# Altium footprint library LaserDiode_Driver.PcbLib: 56 footprints (part 2 of 4)
Each footprint in its own frame and in the unit in brackets; x right, y up, seen from the top. Pads: shape width x height; smd on the part's side, far side on the other; paste and mask are expansions set on the pad; w line width, h text height; cw(c..) or ccw(c..) is an arc to the next point about the centre after c.
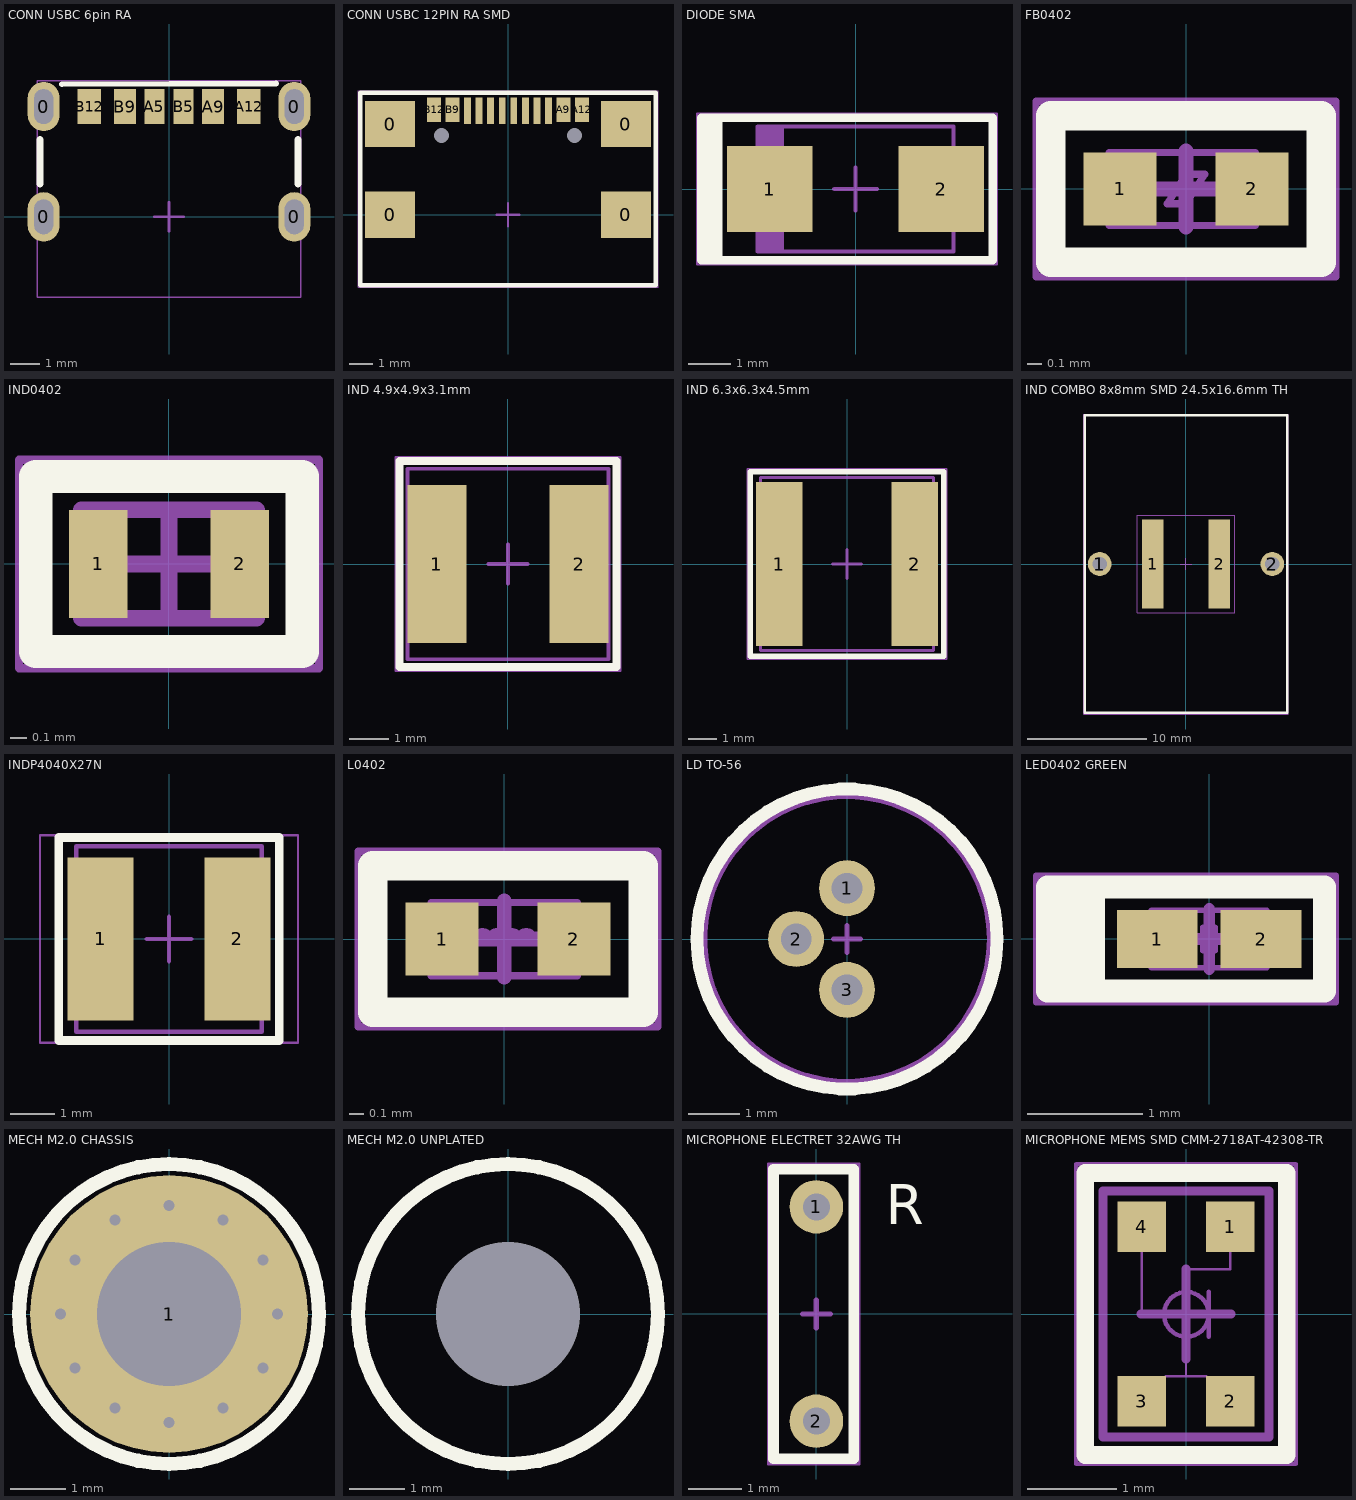
[diagram p1: the footprints below, top view; thin cyan lines are the x and y axes]

## CONN USBC 6pin RA [mm]
pads (10):
  oval 1.1x1.7 hole 0.65 slot 1.2 at 90 deg: 0(-4.32,0) 0(-4.32,3.8) 0(4.32,0) 0(4.32,3.8)
  rect 0.7x1.2 smd: A5(-0.5,3.8) B5(0.5,3.8)
  rect 0.76x1.2 smd: A9(1.52,3.8) B9(-1.52,3.8)
  rect 0.8x1.2 smd: A12(2.75,3.8) B12(-2.75,3.8)
Top Overlay:
  lines w0.2: -3.683,4.572 3.683,4.6
  lines w0.254: -4.445,1.143 -4.445,2.667 ; 4.445,1.143 4.445,2.667
Mechanical 15:
  lines w0.05: -4.545,-2.767 4.545,-2.767 4.545,4.686 -4.545,4.686 -4.545,-2.767
  lines w0.1: -0.504,0.004 0.496,0.004 ; -0.004,-0.496 -0.004,0.504
3D body "USB4125-GF-A.stp": height 3.26, standoff -1, extent -4.47,-2.667 4.47,4.233

## CONN USBC 12PIN RA SMD [mm]
pads (18):
  rect 2.18x2 smd: 0(-5.11,0) 0(-5.11,3.93) 0(5.11,0) 0(5.11,3.93)
  round 0 hole 0.65 unplated: 0(-2.89,3.43) 0(2.89,3.43)
  rect 0.3x1.15 smd: A5(-1.25,4.505) A6(-0.25,4.505) A7(0.25,4.505) A8(1.25,4.505) B5(1.75,4.505) B6(0.75,4.505) B7(-0.75,4.505) B8(-1.75,4.505)
  rect 0.6x1.06 smd: A9(2.4,4.55) A12(3.2,4.55) B9(-2.4,4.55) B12(-3.2,4.55)
Top Overlay:
  lines w0.2: -6.4,-3.048 -5.673,-3.048 6.4,-3.048 6.4,0 6.4,5.28 2.9,5.28 -6.4,5.28 -6.4,-1 -6.4,-3.048
Mechanical 15:
  lines w0.05: -6.5,-3.148 -6.5,5.38 6.5,5.38 6.5,-3.148 -6.5,-3.148
  lines w0.1: -0.5,0 0.5,0 ; 0,-0.5 0,0.5
3D body "USB4110-GF-A.stp": height 3.26, standoff -0.63, extent -5.673,-2.848 5.627,4.852

## DIODE SMA [mm]
height 2.2
pads (2):
  rect 2x2 smd: 1(-2,0) 2(2,0)
Top Overlay:
  lines w0.2: -3.4,1.66 -3.4,-1.66 ; -3.4,-1.66 -3.6,-1.66 -3.6,1.26 -3.6,1.66 -3.2,1.66 ; -3.4,-1.66 -3.2,-1.66 ; -3.2,-1.66 3.2,-1.66 3.2,1 3.2,1.66 -2.505,1.66 -3.2,1.66 ; -3.2,-1.66 -3.2,-1 -3.2,1.66
Mechanical 13:
  rectangle: -2.285,-1.46 -1.67,1.46
  lines w0.1: -2.285,-1.46 2.285,-1.46 2.285,1.46 -2.285,1.46 -2.285,-1.46
Mechanical 15:
  lines w0.05: -3.7,-1.76 3.3,-1.76 3.3,1.76 -3.7,1.76 -3.7,-1.76
  lines w0.1: -0.5,0 0.5,0 ; 0,-0.5 0,0.5
3D body "DIODE SMA.step": height 2.2, standoff 0, extent -2.505,-1.46 2.505,1.46

## FB0402 [mm]
pads (2):
  rect 0.5x0.5 smd: 1(-0.45,0) 2(0.45,0)
Top Overlay:
  lines w0.2: -0.925,-0.5 0.925,-0.5 0.925,0.5 -0.925,0.5 -0.925,-0.5
Mechanical 13:
  lines w0.05: -0.267,0 -0.064,0 ; 0.267,0 0.064,0 ; -0.064,0 -0.127,-0.1 0,-0.1 0.064,0 ; -0.064,0 0,0.1 0.127,0.1 0.064,0 ; -0.525,-0.25 -0.525,0.25 0.475,0.25 0.475,-0.25 -0.525,-0.25
Mechanical 15:
  lines w0.05: -1.025,-0.6 -1.025,0.6 1.025,0.6 1.025,-0.6 -1.025,-0.6
  lines w0.1: -0.26,0 0.26,0 ; 0,-0.26 0,0.26
3D body "User Library-CR1005-0402.step": height 0.36, standoff 0.01, extent -0.525,-0.25 0.475,0.25

## IND0402 [mm] "Chip Inductor, 2-Leads, Body 1.00x0.60mm, IPC Medium Density"
height 0.6
pads (2):
  rect 0.35x0.65 smd: 1(-0.425,0) 2(0.425,0)
Top Overlay:
  lines w0.2: -0.8,-0.525 -0.8,0.525 0.8,0.525 0.8,-0.525 -0.8,-0.525
Mechanical 13:
  lines w0.1: -0.525,-0.325 0.525,-0.325 0.525,0.325 -0.525,0.325 -0.525,-0.325
Mechanical 15:
  lines w0.05: -0.9,-0.625 0.9,-0.625 0.9,0.625 -0.9,0.625 -0.9,-0.625
  lines w0.1: -0.325,0 0.325,0 ; 0,-0.325 0,0.325
3D body "IND0402.step": height 0.6, standoff 0, extent -0.525,-0.325 0.525,0.325

## IND 4.9x4.9x3.1mm [mm] "Precision Wire Wound Inductor, 2-Leads, Body 4.90x4.90mm, IPC Medium Density"
height 3.1
pads (2):
  rect 1.5x4 smd: 1(-1.8,0) 2(1.8,0)
Top Overlay:
  lines w0.2: -2.75,-2.613 2.75,-2.613 2.75,2.613 -2.75,2.613 -2.75,-2.613
Mechanical 13:
  lines w0.1: -2.55,-2.413 -2.55,2.413 2.55,2.413 2.55,-2.413 -2.55,-2.413
Mechanical 15:
  lines w0.05: -2.85,-2.713 -2.85,2.713 2.85,2.713 2.85,-2.713 -2.85,-2.713
  lines w0.1: -0.5,0 0.5,0 ; 0,-0.5 0,0.5
3D body "IND 4.9x4.9x3.1mm.step": height 3.2, standoff 0, extent -2.55,-2.45 2.55,2.45

## IND 6.3x6.3x4.5mm [mm]
pads (2):
  rect 1.6x5.7 smd: 1(-2.35,0) 2(2.35,0)
Top Overlay:
  lines w0.2: -3.35,-3.2 3.35,-3.2 3.35,3.2 -3.35,3.2 -3.35,-3.2
Mechanical 13:
  lines w0.1: -3,-3 -3,3 3,3 3,-3 -3,-3
Mechanical 15:
  lines w0.05: -3.45,-3.3 -3.45,3.3 3.45,3.3 3.45,-3.3 -3.45,-3.3
  lines w0.1: -0.5,0 0.5,0 ; 0,-0.5 0,0.5
3D body "1255AY-6R8M=P3.STEP": height 4.5, standoff 0, extent -3,-3 3,3

## IND COMBO 8x8mm SMD 24.5x16.6mm TH [mm]
height 4.2
pads (4):
  round 2 hole 1.2: 1(-7.25,0) 2(7.25,0)
  rect 1.8x7.5 smd: 1(-2.8,0) 2(2.8,0)
Top Overlay:
  lines w0.2: -8.5,-12.5 8.5,-12.5 8.5,12.5 -8.5,12.5 -8.5,-12.5
Mechanical 13:
  lines w0.1: -4.1,-4.1 -4.1,4.1 4.1,4.1 4.1,-4.1 -4.1,-4.1
Mechanical 15:
  lines w0.05: -8.6,-12.6 -8.6,12.6 8.6,12.6 8.6,-12.6 -8.6,-12.6
  lines w0.1: -0.5,0 0.5,0 ; 0,-0.5 0,0.5

## INDP4040X27N [mm] "Precision Wire Wound Inductor, 2-Leads, Body 4.00x4.00mm, IPC Medium Density"
height 2.7
pads (2):
  rect 1.5x3.7 smd: 1(-1.55,0) 2(1.55,0)
Top Overlay:
  lines w0.2: -2.5,-2.3 -2.5,2.3 2.5,2.3 2.5,-2.3 -2.5,-2.3
Top Assembly:
  lines w0.1: -2.1,-2.1 2.1,-2.1 2.1,2.1 -2.1,2.1 -2.1,-2.1
Top Courtyard:
  lines w0.05: -2.925,-2.35 2.925,-2.35 2.925,2.35 -2.925,2.35 -2.925,-2.35
  lines w0.1: -0.5,0 0.5,0 ; 0,-0.5 0,0.5
3D body "INDP4040X27N.step": height 2.8, standoff 0, extent -2.1,-2 2.1,2

## L0402 [mm]
pads (2):
  rect 0.5x0.5 smd: 1(-0.425,0) 2(0.475,0)
Top Overlay:
  lines w0.2: -0.9,-0.5 0.95,-0.5 0.95,0.5 -0.9,0.5 -0.9,-0.5
Mechanical 13:
  lines w0.05: -0.302,0 -0.2,0 cw(c-0.15,0) -0.1,0 cw(c-0.05,0) 0,0 cw(c0.05,0) 0.1,0 cw(c0.15,0) 0.2,0 0.302,0 ; -0.5,-0.25 -0.5,0.25 0.5,0.25 0.5,-0.25 -0.5,-0.25
Mechanical 15:
  lines w0.05: -1,-0.6 -1,0.6 1.05,0.6 1.05,-0.6 -1,-0.6
  lines w0.1: -0.26,0 0.26,0 ; 0,-0.26 0,0.26
3D body "Coilcraft-0402DF.step": height 0.66, standoff 0, extent -0.554,-0.32 0.564,0.341

## LD TO-56 [mm]
pads (3):
  round 1.1 hole 0.6: 1(0,1) 2(-1,0) 3(0,-1)
Top Overlay:
  circle w0.254: c0,0 r2.95
Mechanical 15:
  circle w0.1: c0,0 r2.8
  lines w0.1: -0.26,0 0.26,0 ; 0,-0.26 0,0.26
3D body "User Library-TO-56_NTypeLD.STEP": height 3.5, standoff -6.5, extent -2.732,-2.769 2.8,2.768

## LED0402 GREEN [mm]
pads (2):
  rect 0.7x0.5 smd: 1(-0.45,0) 2(0.45,0)
Top Overlay:
  lines w0.2: -1.2,-0.45 -1.2,0.449 ; -1,-0.45 -1,0 -1,0.45 ; -1,-0.45 1,-0.45 1,0.45 -1,0.45 ; -1,-0.45 -1.4,-0.45 -1.4,0.45 -1,0.45
Mechanical 13:
  lines w0.05: -0.255,0 -0.052,0 ; -0.052,-0.102 -0.052,0.102 ; 0.052,-0.102 0.052,0.102 ; 0.052,0 0.255,0 ; -0.5,-0.25 -0.5,0.25 0.5,0.25 0.5,-0.25 -0.5,-0.25
Mechanical 15:
  lines w0.05: -1.5,-0.55 -1.5,0.55 1.1,0.55 1.1,-0.55 -1.5,-0.55
  lines w0.1: -0.26,0 0.26,0 ; 0,-0.26 0,0.26
3D body "Diode_Kingbright_APHHS1005CGCK_eec.STEP": height 0.5, standoff 0, extent -0.5,-0.25 0.5,0.25

## MECH M2.0 CHASSIS [mm]
pads (1):
  round 5 hole 2.6: 1(0,0)
via 0.975,-1.689 diameter 0.5 hole 0.2
via 0,-1.95 diameter 0.5 hole 0.2
via 1.689,-0.975 diameter 0.5 hole 0.2
via -1.689,-0.975 diameter 0.5 hole 0.2
via -1.95,0 diameter 0.5 hole 0.2
via -0.975,-1.689 diameter 0.5 hole 0.2
via -0.975,1.689 diameter 0.5 hole 0.2
via 0,1.95 diameter 0.5 hole 0.2
via -1.689,0.975 diameter 0.5 hole 0.2
via 1.689,0.975 diameter 0.5 hole 0.2
via 1.95,0 diameter 0.5 hole 0.2
via 0.975,1.689 diameter 0.5 hole 0.2
Top Overlay:
  circle w0.254: c0,0 r2.7

## MECH M2.0 UNPLATED [mm]
pads (1):
  round 0 hole 2.6 unplated: 1(0,0)
Top Overlay:
  circle w0.254: c0,0 r2.7

## MICROPHONE ELECTRET 32AWG TH [mm]
pads (2):
  round 1 hole 0.5: 1(0,2) 2(0,-2)
Top Overlay:
  lines w0.2: -0.8,-2.7 -0.8,2.477 -0.8,2.7 0,2.7 0.7,2.7 0.7,2 0.7,-2.7 0,-2.7 -0.8,-2.7
  text "R" at 1.293,1.674 h0.75
Mechanical 15:
  lines w0.05: -0.9,-2.8 0.8,-2.8 0.8,2.8 -0.9,2.8 -0.9,-2.8
  lines w0.1: -0.26,0 0.26,0 ; 0,-0.26 0,0.26

## MICROPHONE MEMS SMD CMM-2718AT-42308-TR [mm]
pads (4):
  rect 0.54x0.56 smd: 1(0.495,0.975) 2(0.495,-0.975) 3(-0.495,-0.975) 4(-0.495,0.975)
Top Overlay:
  lines w0.2: -1.125,-1.575 -1.125,1.575 1.125,1.575 1.125,-1.575 -1.125,-1.575
Mechanical 1:
  circle w0.05: c0.004,-0.004 r0.25
  lines w0.025: -0.495,0.695 -0.495,0 -0.246,0 ; -0.225,-0.695 0.225,-0.695 ; 0,-0.695 0,-0.254 ; 0,0.246 0,0.5 0.495,0.5 0.495,0.695
  lines w0.05: 0.254,-0.254 0.254,0.246
Mechanical 13:
  lines w0.1: -0.925,-1.375 -0.925,1.375 0.925,1.375 0.925,-1.375 -0.925,-1.375
Mechanical 15:
  lines w0.05: -1.225,-1.675 -1.225,1.675 1.225,1.675 1.225,-1.675 -1.225,-1.675
  lines w0.1: -0.5,0 0.5,0 ; 0,-0.5 0,0.5
3D body "CUI_DEVICES_CMM-2718AT-42308-TR.step": height 0.95, standoff 0, extent -0.925,-1.375 0.925,1.375